# Altium schematic symbol library INA826AID.SchLib: 1 symbol
Pins are listed as number, name and electrical type; pins without a type are passive.

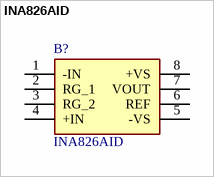
[diagram p0: symbol INA826AID]

## INA826AID
designator B?
Texas Instruments INA826AID Instrumentation Amplifier, 150uV Offset 1MHz GBW, CMMR 80dB, 2.7  36 V, 8-Pin SOIC; Geometry.Height: 1.75mm; Mouser Part Number: 595-INA826AID; Mouser Price/Stock: https://www.mouser.co.uk/ProductDetail/Texas-Instruments/INA826AID?qs=RqytGdBYyUH0CDtkCzl1iw%3D%3D; Manufacturer_Name: Texas Instruments; Manufacturer_Part_Number: INA826AID; Datasheet Link: http://www.ti.com/lit/gpn/ina826
footprint SOIC127P600X175-8N
pins: 1 -IN, 2 RG_1, 3 RG_2, 4 +IN, 5 -VS, 6 REF, 7 VOUT, 8 +VS